# Altium schematic symbol library R1.SchLib: 224 symbols (part 2 of 2)
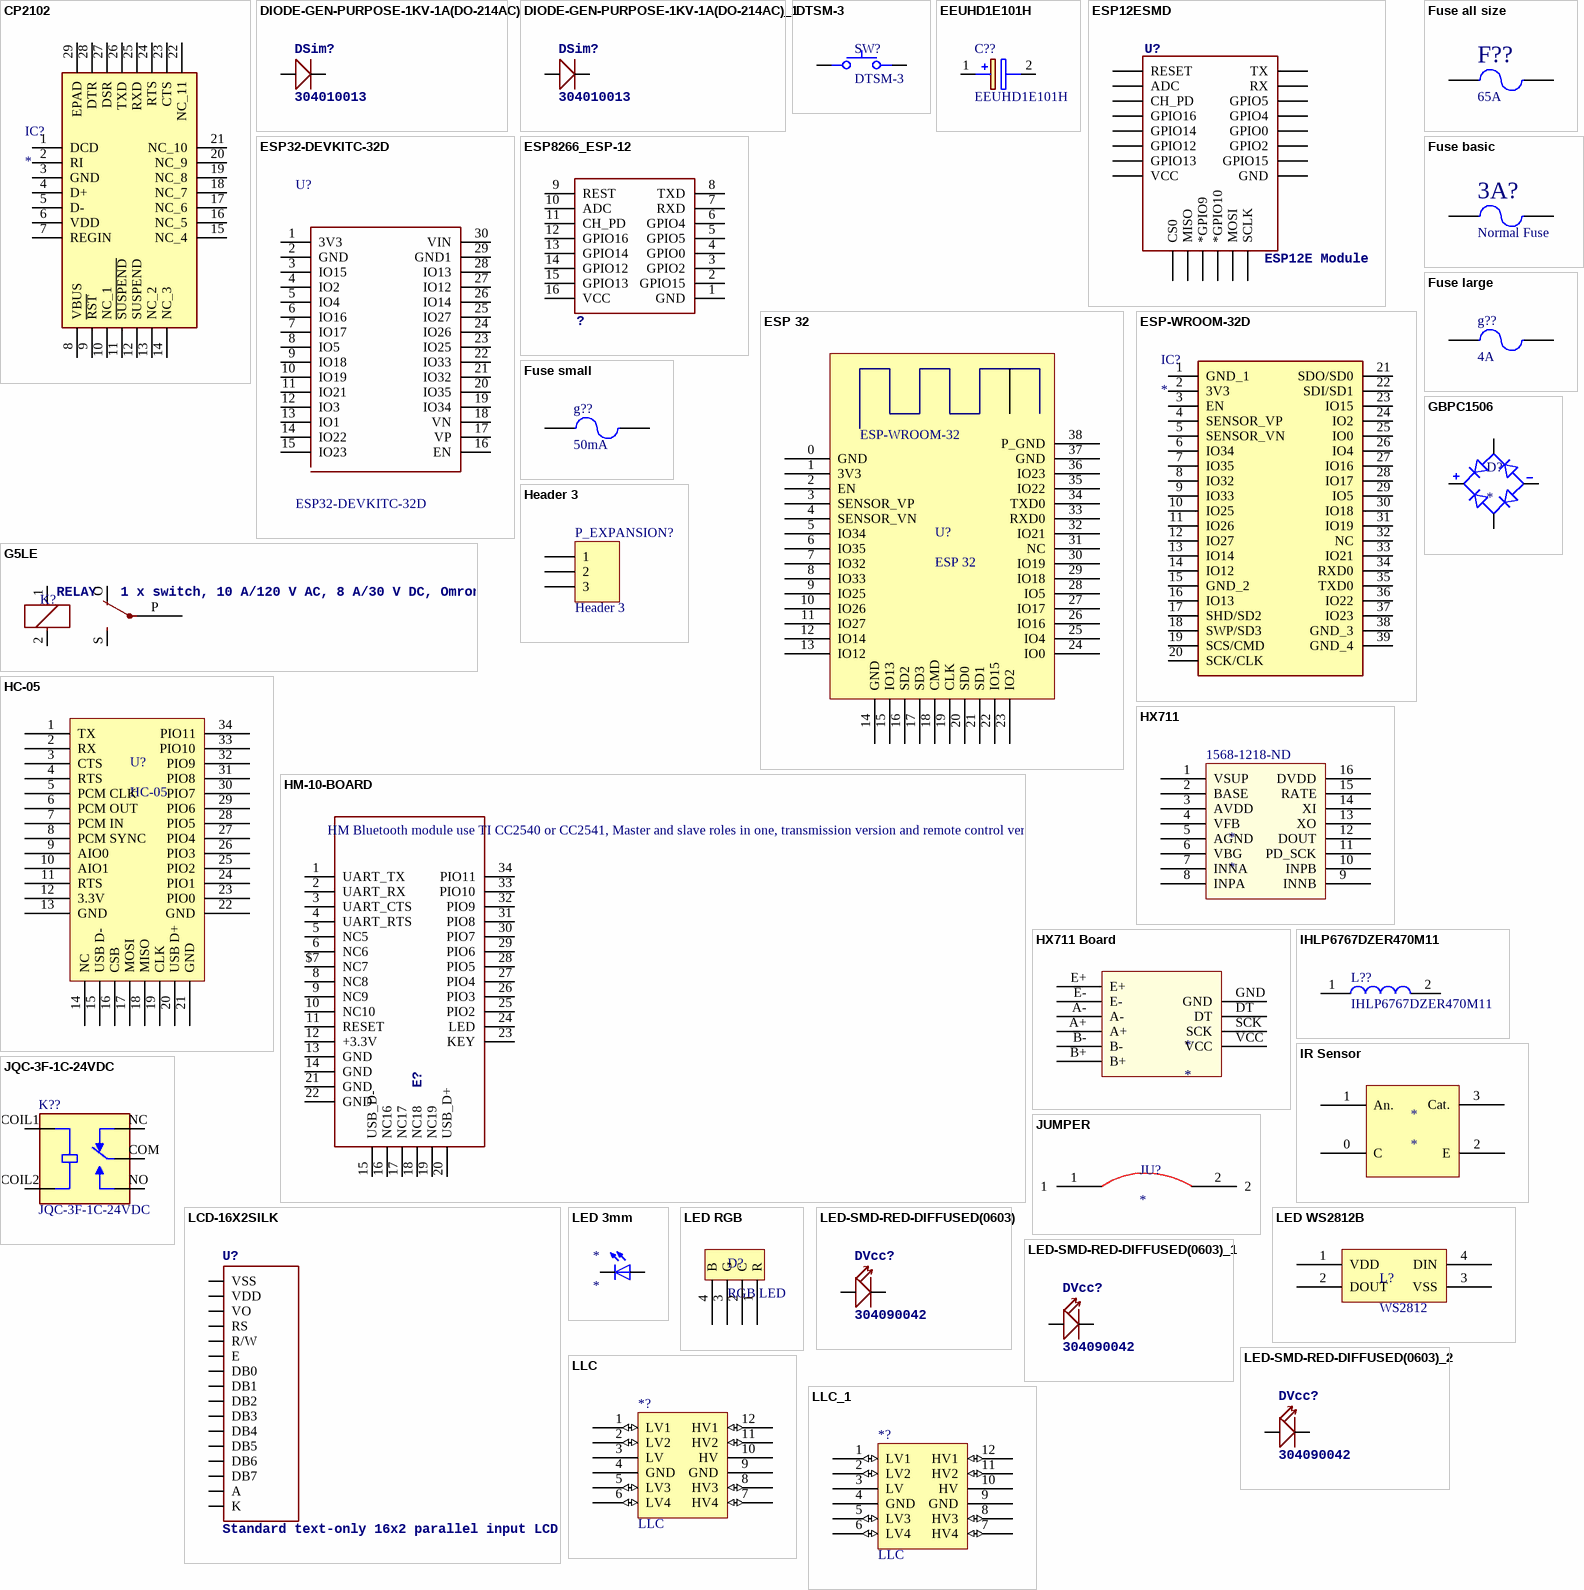
[diagram p7: symbols CP2102 to LLC_1]

## IR Sensor
designator *
footprint IR PRO
footprint Model Name (Model Description)
pins: 0 C, 1 An., 2 E, 3 Cat.

## JQC-3F-1C-24VDC
designator K??
Miniature PCB Relay 24VDC, 10A 250VAC, 15A 125VAC, 10A 250VAC; MF: YUEQING HENGWEI ELECTRONICS CO.,LTD.; Price: None; MP: JQC-3F-1C-24VDC; Availability: Unavailable; SnapEDA_Link: https://www.snapeda.com/parts/JQC-3F-1C-24VDC/YUEQING%20HENGWEI%20ELECTRONICS%20CO.,LTD./view-part/4374405/?ref=snap; Value: *; Package: Package; Check_prices: https://www.snapeda.com/parts/JQC-3F-1C-24VDC/YUEQING%20HENGWEI%20ELECTRONICS%20CO.,LTD./view-part/4374405/?ref=eda
footprint RELAY_JQC-3F-1C-24VDC
pins: COIL1, COIL2, COM, NC, NO

## JUMPER
designator JU?
footprint JUMPER 200mil (JUMPER for one layer PCB)
footprint JUMPER 400mil (JUMPER for one layer PCB)
footprint JUMPER 600mil (JUMPER for one layer PCB)
pins: 1, 2

## LCD-16X2SILK
designator U?, comment Standard text-only 16x2 parallel input LCD
footprint LCD-16X2
pins: 1 VSS (power), 2 VDD (power), 3 VO, 4 RS, 5 R/W, 6 E, 7 DB0, 8 DB1, 9 DB2, 10 DB3, 11 DB4, 12 DB5, 13 DB6, 14 DB7, 15 A (power), 16 K (power)

## LED 3mm
designator *
footprint LED 3mm
pins: A, K C

## LED RGB
designator D?, comment RGB LED
footprint LED RGB (5mm RGB LED)
pins: 1 R, 2 C, 3 G, 4 B

## LED WS2812B
designator L?, comment WS2812
RGB LED
footprint LED WS2812B (Intelligent control LED  integrated light source)
pins: 1 VDD, 2 DOUT, 3 VSS, 4 DIN

## LED-SMD-RED-DIFFUSED(0603)
designator DVcc?, comment 304090042
MPN: 19-217-R6C-AL1M2VY-3T
footprint LED-0603
pins: +, -

## LED-SMD-RED-DIFFUSED(0603)_1
designator DVcc?, comment 304090042
MPN: 19-217-R6C-AL1M2VY-3T
footprint LED-0603
pins: +, -

## LED-SMD-RED-DIFFUSED(0603)_2
designator DVcc?, comment 304090042
MPN: 19-217-R6C-AL1M2VY-3T
footprint LED-0603
pins: +, -

## LLC
designator *?
footprint LLC
pins: 1 LV1 (io), 2 LV2 (io), 3 LV (power), 4 GND (power), 5 LV3 (io), 6 LV4 (io), 7 HV4 (io), 8 HV3 (io), 9 GND (power), 10 HV (power), 11 HV2 (io), 12 HV1 (io)

## LLC_1
designator *?, comment LLC
footprint LLC
pins: 1 LV1 (io), 2 LV2 (io), 3 LV (power), 4 GND (power), 5 LV3 (io), 6 LV4 (io), 7 HV4 (io), 8 HV3 (io), 9 GND (power), 10 HV (power), 11 HV2 (io), 12 HV1 (io)

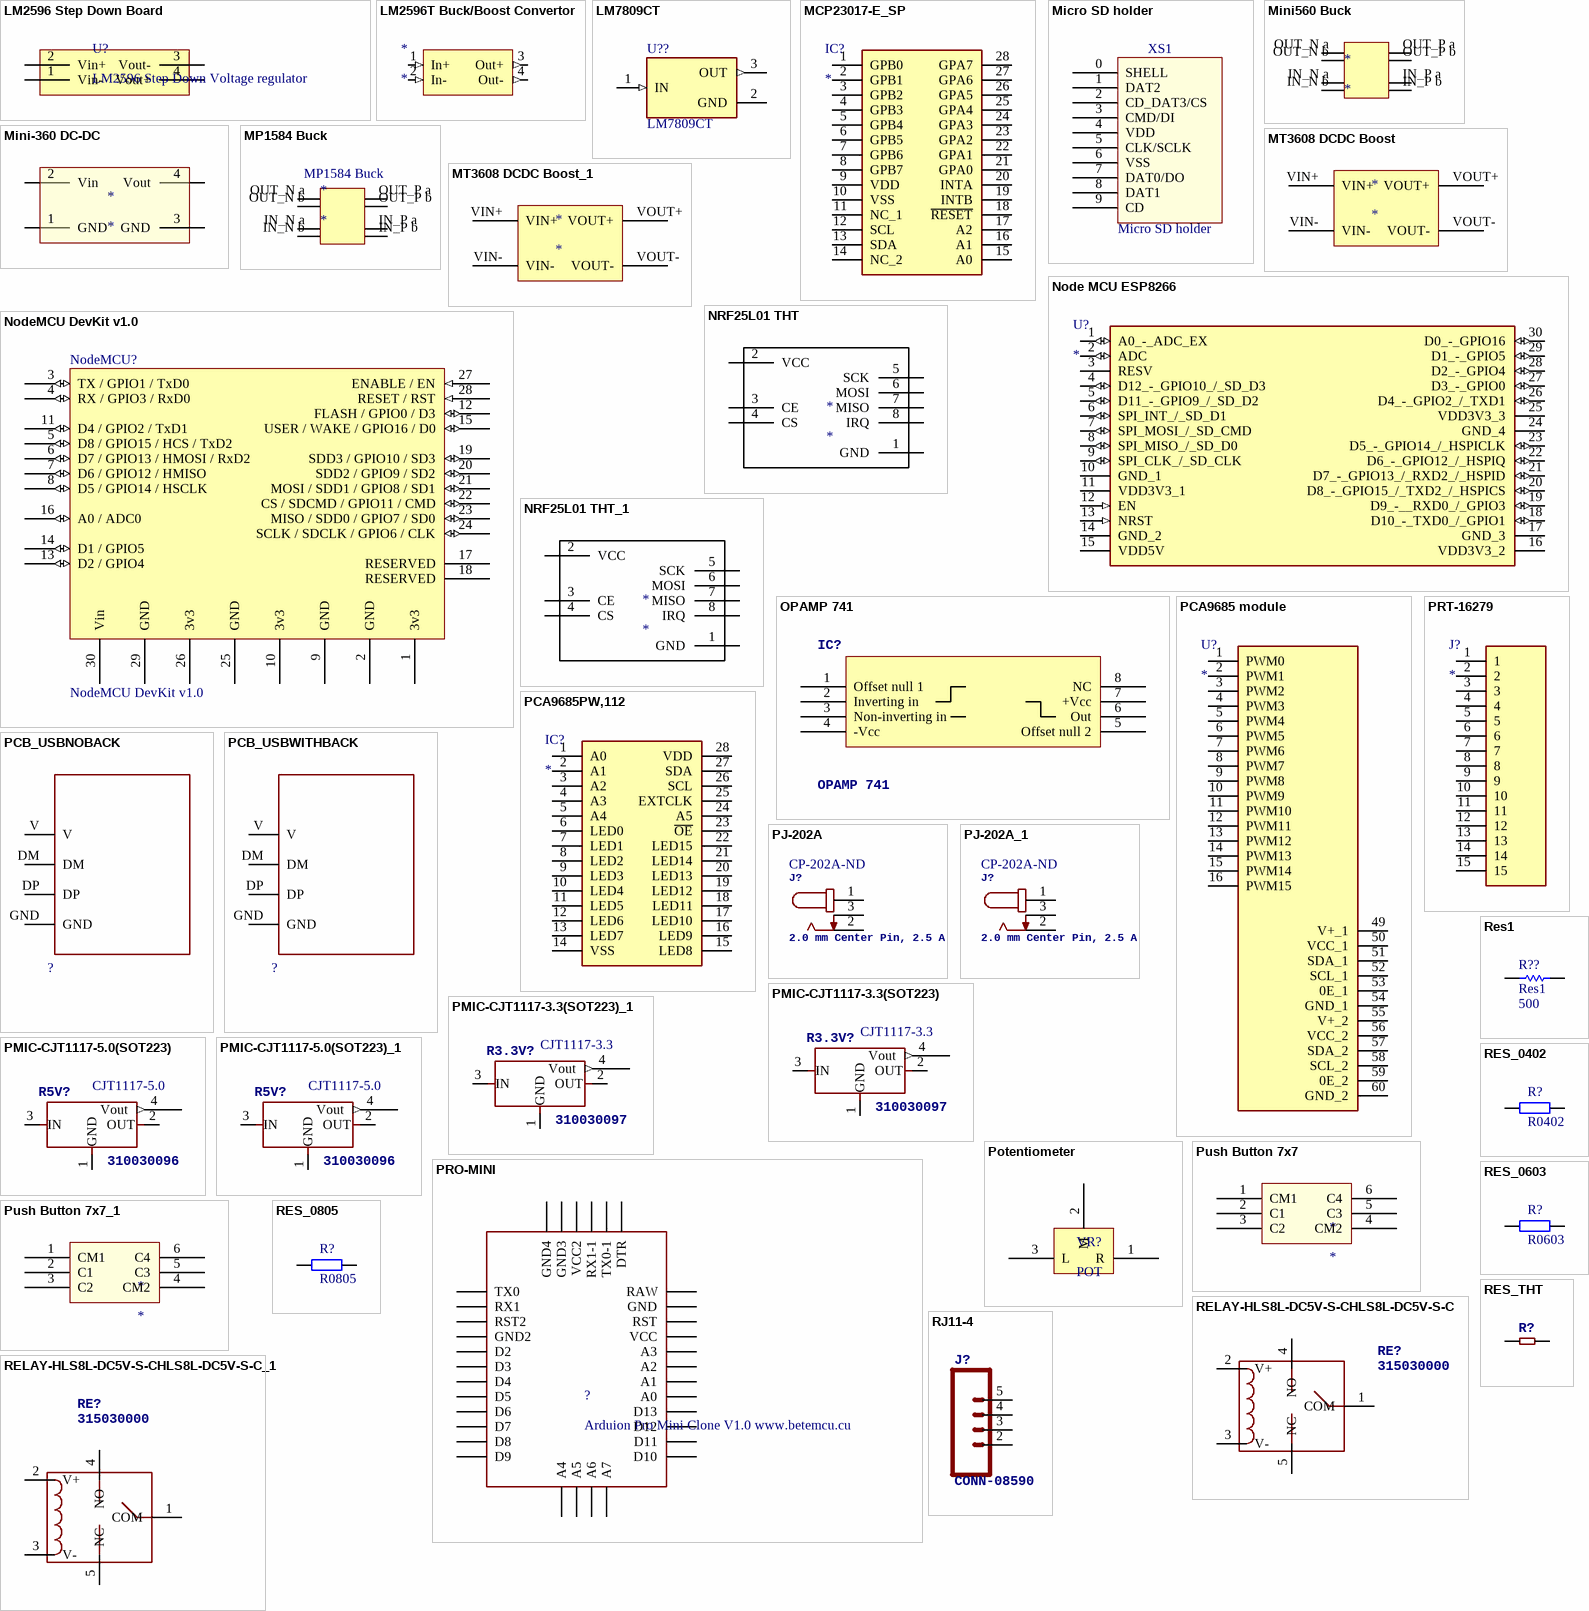
[diagram p4: symbols LM2596 Step Down Board to RJ11-4]

## LM2596 Step Down Board
designator U?, comment LM2596 Step Down Voltage regulator
footprint LM2596 DC-DC
pins: 1 Vin-, 2 Vin+, 3 Vout-, 4 Vout+

## LM2596T Buck/Boost Convertor
designator *
footprint LM2596 MODULE
pins: 1 In+ (in), 2 In- (in), 3 Out+ (out), 4 Out- (out)

## LM7809CT
designator U??
Linear Voltage Regulator IC 1 Output 1A TO-220-3; MF: Fujitsu; MP: LM7809C; Price: None; SnapEDA_Link: https://www.snapeda.com/parts/LM7809C/Fujitsu/view-part/1233224/?ref=snap; Package: TO-220-3 Fujitsu; Value: *; Availability: Unavailable
footprint TO254P470X1016X1879-3P
pins: 1 IN (in), 2 GND (power), 3 OUT (out)

## MCP23017-E_SP
designator IC?
Integrated Circuit; Manufacturer_Name: Microchip; Manufacturer_Part_Number: MCP23017-E/SP; Datasheet Link: https://datasheet.datasheetarchive.com/originals/distributors/SFDatasheet-4/sf-00090057.pdf; Height: 5.08mm; Mouser Part Number: 579-MCP23017-E/SP; Mouser Price/Stock: https://www.mouser.co.uk/ProductDetail/Microchip-Technology-Atmel/MCP23017-E-SP?qs=usxtMOJb1RyESXZDw7ia5A%3D%3D; Arrow Part Number: MCP23017-E/SP; Arrow Price/Stock: https://www.arrow.com/en/products/mcp23017-esp/microchip-technology?region=nac
footprint DIP794W56P254L3486H508Q28N
pins: 1 GPB0, 2 GPB1, 3 GPB2, 4 GPB3, 5 GPB4, 6 GPB5, 7 GPB6, 8 GPB7, 9 VDD, 10 VSS, 11 NC_1, 12 SCL, 13 SDA, 14 NC_2, 15 A0, 16 A1, 17 A2, 18 ~{RESET}, 19 INTB, 20 INTA, 21 GPA0, 22 GPA1, 23 GPA2, 24 GPA3, 25 GPA4, 26 GPA5, 27 GPA6, 28 GPA7

## Micro SD holder
designator XS1
footprint 112C-TBAR-R02
pins: 0 SHELL, 1 DAT2, 2 CD_DAT3/CS, 3 CMD/DI, 4 VDD, 5 CLK/SCLK, 6 VSS, 7 DAT0/DO, 8 DAT1, 9 CD

## Mini560 Buck
designator *
footprint Mini560
pins: IN_N a, IN_N b, IN_P a, IN_P b, OUT_N a, OUT_N b, OUT_P a OUT_P b, OUT_P b

## Mini-360 DC-DC
designator *
footprint Mini-360 (DC-DC Power source)
pins: 1 GND (power), 2 Vin (power), 3 GND (power), 4 Vout (power)

## MP1584 Buck
designator *
footprint MP1584 Buck
pins: IN_N a, IN_N b, IN_P a, IN_P b, OUT_N a, OUT_N b, OUT_P a OUT_P b, OUT_P b

## MT3608 DCDC Boost
designator *
footprint MT3608 (Step Up board)
pins: VIN+, VIN-, VOUT+, VOUT-

## MT3608 DCDC Boost_1
designator *
footprint MT3608 (Step Up board)
pins: VIN+, VIN-, VOUT+, VOUT-

## Node MCU ESP8266
designator U?
Undefined or Miscellaneous; Manufacturer_Name: Seeed Studio; Manufacturer_Part_Number: 113990105; Datasheet Link: https://www.seeedstudio.com/NodeMCU-v2-Lua-based-ESP8266-development-kit.html; Height: 7.35mm; Mouser Part Number: 713-113990105; Mouser Price/Stock: https://www.mouser.co.uk/ProductDetail/Seeed-Studio/113990105?qs=SElPoaY2y5KMx8k1roAIKw%3D%3D; Arrow Part Number: 113990105; Arrow Price/Stock: https://www.arrow.com/en/products/113990105/seeed-technology-limited?region=nac
footprint 113990105
pins: 1 A0_-_ADC_EX (io), 2 ADC (io), 3 RESV, 4 D12_-_GPIO10_/_SD_D3 (io), 5 D11_-_GPIO9_/_SD_D2 (io), 6 SPI_INT_/_SD_D1 (io), 7 SPI_MOSI_/_SD_CMD (io), 8 SPI_MISO_/_SD_D0 (io), 9 SPI_CLK_/_SD_CLK (io), 10 GND_1 (power), 11 VDD3V3_1 (power), 12 EN (in), 13 NRST (in), 14 GND_2 (power), 15 VDD5V (power), 16 VDD3V3_2 (power), 17 GND_3 (power), 18 D10_-_TXD0_/_GPIO1 (io), 19 D9_-__RXD0_/_GPIO3 (io), 20 D8_-_GPIO15_/_TXD2_/_HSPICS (io), 21 D7_-_GPIO13_/_RXD2_/_HSPID (io), 22 D6_-_GPIO12_/_HSPIQ (io), 23 D5_-_GPIO14_/_HSPICLK (io), 24 GND_4 (power), 25 VDD3V3_3 (power), 26 D4_-_GPIO2_/_TXD1 (io), 27 D3_-_GPIO0 (io), 28 D2_-_GPIO4 (io), 29 D1_-_GPIO5 (io), 30 D0_-_GPIO16 (io)

## NodeMCU DevKit v1.0
designator NodeMCU?
footprint NODEMCU
pins: 1 3v3 (power), 2 GND (power), 3 TX / GPIO1 / TxD0 (io), 4 RX / GPIO3 / RxD0 (io), 5 D8 / GPIO15 / HCS / TxD2 (io), 6 D7 / GPIO13 / HMOSI / RxD2 (io), 7 D6 / GPIO12 / HMISO (io), 8 D5 / GPIO14 / HSCLK (io), 9 GND (power), 10 3v3 (power), 11 D4 / GPIO2 / TxD1 (io), 12 FLASH / GPIO0 / D3 (io), 13 D2 / GPIO4 (io), 14 D1 / GPIO5 (io), 15 USER / WAKE / GPIO16 / D0 (io), 16 A0 / ADC0 (io), 17 RESERVED, 18 RESERVED, 19 SDD3 / GPIO10 / SD3 (io), 20 SDD2 / GPIO9 / SD2 (io), 21 MOSI / SDD1 / GPIO8 / SD1 (io), 22 CS / SDCMD / GPIO11 / CMD (io), 23 MISO / SDD0 / GPIO7 / SD0 (io), 24 SCLK / SDCLK / GPIO6 / CLK (io), 25 GND (power), 26 3v3 (power), 27 ENABLE / EN (in), 28 RESET / RST (in), 29 GND, 30 Vin

## NRF25L01 THT
designator *
footprint NRF25L01 THT
pins: 1 GND (power), 2 VCC (power), 3 CE, 4 CS, 5 SCK, 6 MOSI, 7 MISO, 8 IRQ

## NRF25L01 THT_1
designator *
footprint NRF25L01 THT
pins: 1 GND (power), 2 VCC (power), 3 CE, 4 CS, 5 SCK, 6 MOSI, 7 MISO, 8 IRQ

## OPAMP 741
designator IC?
footprint DIL08-ROUND
footprint DIL08-ROUND
pins: 1 Offset null 1, 2 Inverting in, 3 Non-inverting in, 4 -Vcc (power), 5 Offset null 2, 6 Out, 7 +Vcc (power), 8 NC

## PCA9685 module
designator U?
Undefined or Miscellaneous; Manufacturer_Name: Adafruit; Manufacturer_Part_Number: 815; Datasheet Link: https://cdn-shop.adafruit.com/datasheets/PCA9685.pdf; Mouser Part Number: 485-815; Mouser Price/Stock: https://www.mouser.co.uk/ProductDetail/Adafruit/815?qs=GURawfaeGuCGKbWyy9179Q%3D%3D; Arrow Part Number: 815; Arrow Price/Stock: https://www.arrow.com/en/products/815/adafruit-industries?region=nac
footprint PCA9685 module
pins: 1 PWM0, 2 PWM1, 3 PWM2, 4 PWM3, 5 PWM4, 6 PWM5, 7 PWM6, 8 PWM7, 9 PWM8, 10 PWM9, 11 PWM10, 12 PWM11, 13 PWM12, 14 PWM13, 15 PWM14, 16 PWM15, 49 V+_1, 50 VCC_1, 51 SDA_1, 52 SCL_1, 53 0E_1, 54 GND_1, 55 V+_2, 56 VCC_2, 57 SDA_2, 58 SCL_2, 59 0E_2, 60 GND_2

## PCA9685PW,112
designator IC?
Integrated Circuit; Manufacturer_Name: NXP; Manufacturer_Part_Number: PCA9685PW,112; Datasheet Link: http://www.nxp.com/docs/en/data-sheet/PCA9685.pdf; Height: 1.1mm; Mouser Part Number: 771-PCA9685PW,112; Mouser Price/Stock: https://www.mouser.co.uk/ProductDetail/NXP-Semiconductors/PCA9685PW112?qs=6YAT8rHPFU9wZqiAeiOMZw%3D%3D; Arrow Part Number: PCA9685PW,112; Arrow Price/Stock: https://www.arrow.com/en/products/pca9685pw112/nxp-semiconductors?region=nac
footprint SOP65P640X110-28N
pins: 1 A0, 2 A1, 3 A2, 4 A3, 5 A4, 6 LED0, 7 LED1, 8 LED2, 9 LED3, 10 LED4, 11 LED5, 12 LED6, 13 LED7, 14 VSS, 15 LED8, 16 LED9, 17 LED10, 18 LED11, 19 LED12, 20 LED13, 21 LED14, 22 LED15, 23 ~{OE}, 24 A5, 25 EXTCLK, 26 SCL, 27 SDA, 28 VDD

## PCB_USBNOBACK
designator ?
footprint PCB_USB_WBACK
pins: DM, DP, GND, V

## PCB_USBWITHBACK
designator ?
footprint PCB_USB_WBACK
pins: DM, DP, GND, V

## PJ-202A
designator J?, comment 2.0 mm Center Pin, 2.5 A, Right Angle, Through Hole, Kinked Pins, Dc Power Jack Connector  Supplier Part Number 1: CP-202A-ND
GateName_1: G$1; SymbolName_1: PJ-202A; MF: CUI Inc.; LibraryName: PJ-202A; DeviceSetName: PJ-202A; Package: CUI_PJ-202A; MP: PJ-202A; Availability: Unavailable; Package: None; Price: None; CUI_purchase_URL: https://www.cui.com/product/interconnect/dc-power-connectors/jacks/2.0-mm-center-pin/pj-202a?utm_source=snapeda.com&utm_medium=referral&utm_campaign=snapedaBOM; Supplier 1: Digi-Key
footprint CUI_PJ-202A (2.0 mm Center Pin, 2.5 A, Right Angle, Through Hole, Kinked Pins, Dc Power Jack Connector)
pins: 1, 2, 3

## PJ-202A_1
designator J?, comment 2.0 mm Center Pin, 2.5 A, Right Angle, Through Hole, Kinked Pins, Dc Power Jack Connector  Supplier Part Number 1: CP-202A-ND
GateName_1: G$1; SymbolName_1: PJ-202A; MF: CUI Inc.; LibraryName: PJ-202A; DeviceSetName: PJ-202A; Package: CUI_PJ-202A; MP: PJ-202A; Availability: Unavailable; Package: None; Price: None; CUI_purchase_URL: https://www.cui.com/product/interconnect/dc-power-connectors/jacks/2.0-mm-center-pin/pj-202a?utm_source=snapeda.com&utm_medium=referral&utm_campaign=snapedaBOM; Supplier 1: Digi-Key
footprint CUI_PJ-202A (2.0 mm Center Pin, 2.5 A, Right Angle, Through Hole, Kinked Pins, Dc Power Jack Connector)
pins: 1, 2, 3

## PMIC-CJT1117-3.3(SOT223)
designator R3.3V?, comment 310030097  MPN: CJT1117-3.3
footprint SOT-223
pins: 1 GND, 2 OUT, 3 IN, 4 Vout (out)

## PMIC-CJT1117-3.3(SOT223)_1
designator R3.3V?, comment 310030097  MPN: CJT1117-3.3
footprint SOT-223
pins: 1 GND, 2 OUT, 3 IN, 4 Vout (out)

## PMIC-CJT1117-5.0(SOT223)
designator R5V?, comment 310030096  MPN: CJT1117-5.0
footprint SOT-223
pins: 1 GND, 2 OUT, 3 IN, 4 Vout (out)

## PMIC-CJT1117-5.0(SOT223)_1
designator R5V?, comment 310030096  MPN: CJT1117-5.0
footprint SOT-223
pins: 1 GND, 2 OUT, 3 IN, 4 Vout (out)

## Potentiometer
designator VR?, comment POT
Potentiometer
footprint Potentiometer (THT)
footprint potentiometer SMD (SMD)
pins: 1 R, 2 M, 3 L

## PRO-MINI
designator ?, comment Arduion Pro Mini Clone V1.0 www.betemcu.cu
footprint PRO-MINI
pins: A0, A1, A2, A3, A4, A5, A6, A7, D2, D3, D4, D5, D6, D7, D8, D9, D10, D11, D12, D13, DTR, GND, GND1 GND2, GND2 GND4, GND3, RAW (power), RST, RST1 RST2, RX1, RX1-1, TX0, TX0-1, VCC, VCC1 VCC2

## PRT-16279
designator J?
Connector; Manufacturer_Name: SparkFun; Manufacturer_Part_Number: PRT-16279; Datasheet Link: https://cdn.sparkfun.com/assets/8/d/8/4/7/DS-16279-Arduino_Nano_Stackable_Header_Kit.pdf; Height: 8.65mm; Mouser Part Number: 474-PRT-16279; Mouser Price/Stock: https://www.mouser.co.uk/ProductDetail/SparkFun/PRT-16279?qs=vmHwEFxEFR8I6W1vfufYPg%3D%3D; Arrow Part Number: PRT-16279; Arrow Price/Stock: https://www.arrow.com/en/products/prt-16279/sparkfun-electronics?region=nac
footprint PRT16279
pins: 1, 2, 3, 4, 5, 6, 7, 8, 9, 10, 11, 12, 13, 14, 15

## Push Button 7x7
designator *
footprint Push Button 7x7 (7x7 SELF-LOCK BUTTON - 2mm DIP)
pins: 1 CM1, 2 C1, 3 C2, 4 CM2, 5 C3, 6 C4

## Push Button 7x7_1
designator *
footprint Push Button 7x7 (7x7 SELF-LOCK BUTTON - 2mm DIP)
pins: 1 CM1, 2 C1, 3 C2, 4 CM2, 5 C3, 6 C4

## RELAY-HLS8L-DC5V-S-CHLS8L-DC5V-S-C
designator RE?, comment 315030000
footprint REY5-19.0X15.0X15.0MM
pins: 1 COM, 2 V+, 3 V-, 4 NO, 5 NC

## RELAY-HLS8L-DC5V-S-CHLS8L-DC5V-S-C_1
designator RE?, comment 315030000
footprint REY5-19.0X15.0X15.0MM
pins: 1 COM, 2 V+, 3 V-, 4 NO, 5 NC

## Res1
designator R??  value 500
Resistor; Published: 8-Jun-2000; LatestRevisionDate: 17-Jul-2002; LatestRevisionNote: Re-released for DXP Platform.; PackageReference: AXIAL-0.3; Publisher: Altium Limited; PackageDescription: Axial Device, Thru-Hole; 2 Leads; 0.3 in Pin Spacing
footprint AXIAL-0.3 (Axial Device, Thru-Hole; 2 Leads; 0.3 in Pin Spacing)
simulation model RESISTOR (Resistor)
pins: 1, 2

## RES_0402
designator R?, comment R0402
Resistor SMD 0402; Manufacturer: *; Manufacturer Part Number: *; Distributor Link: *
footprint RES_0402
pins: 1, 2

## RES_0603
designator R?, comment R0603
Resistor SMD 0603; Manufacturer: *; Manufacturer Part Number: *; Distributor Link: *
footprint RES_0603
pins: 1, 2

## RES_0805
designator R?, comment R0805
Resistor SMD 0805; Manufacturer: *; Manufacturer Part Number: *; Distributor Link: *
footprint RES_0805
pins: 1, 2

## RES_THT
designator R?
footprint Res 1/4w
pins: 1, 2

## RJ11-4
designator J?, comment CONN-08590
RJ11 4P4C; SF_ID: PRT-00132; PROD_ID: CONN-08590
footprint RJ11-6 - 4pin (54601-906WPLF CONN MOD JACK 6P6C R/A UNSHLD)
pins: 2, 3, 4, 5

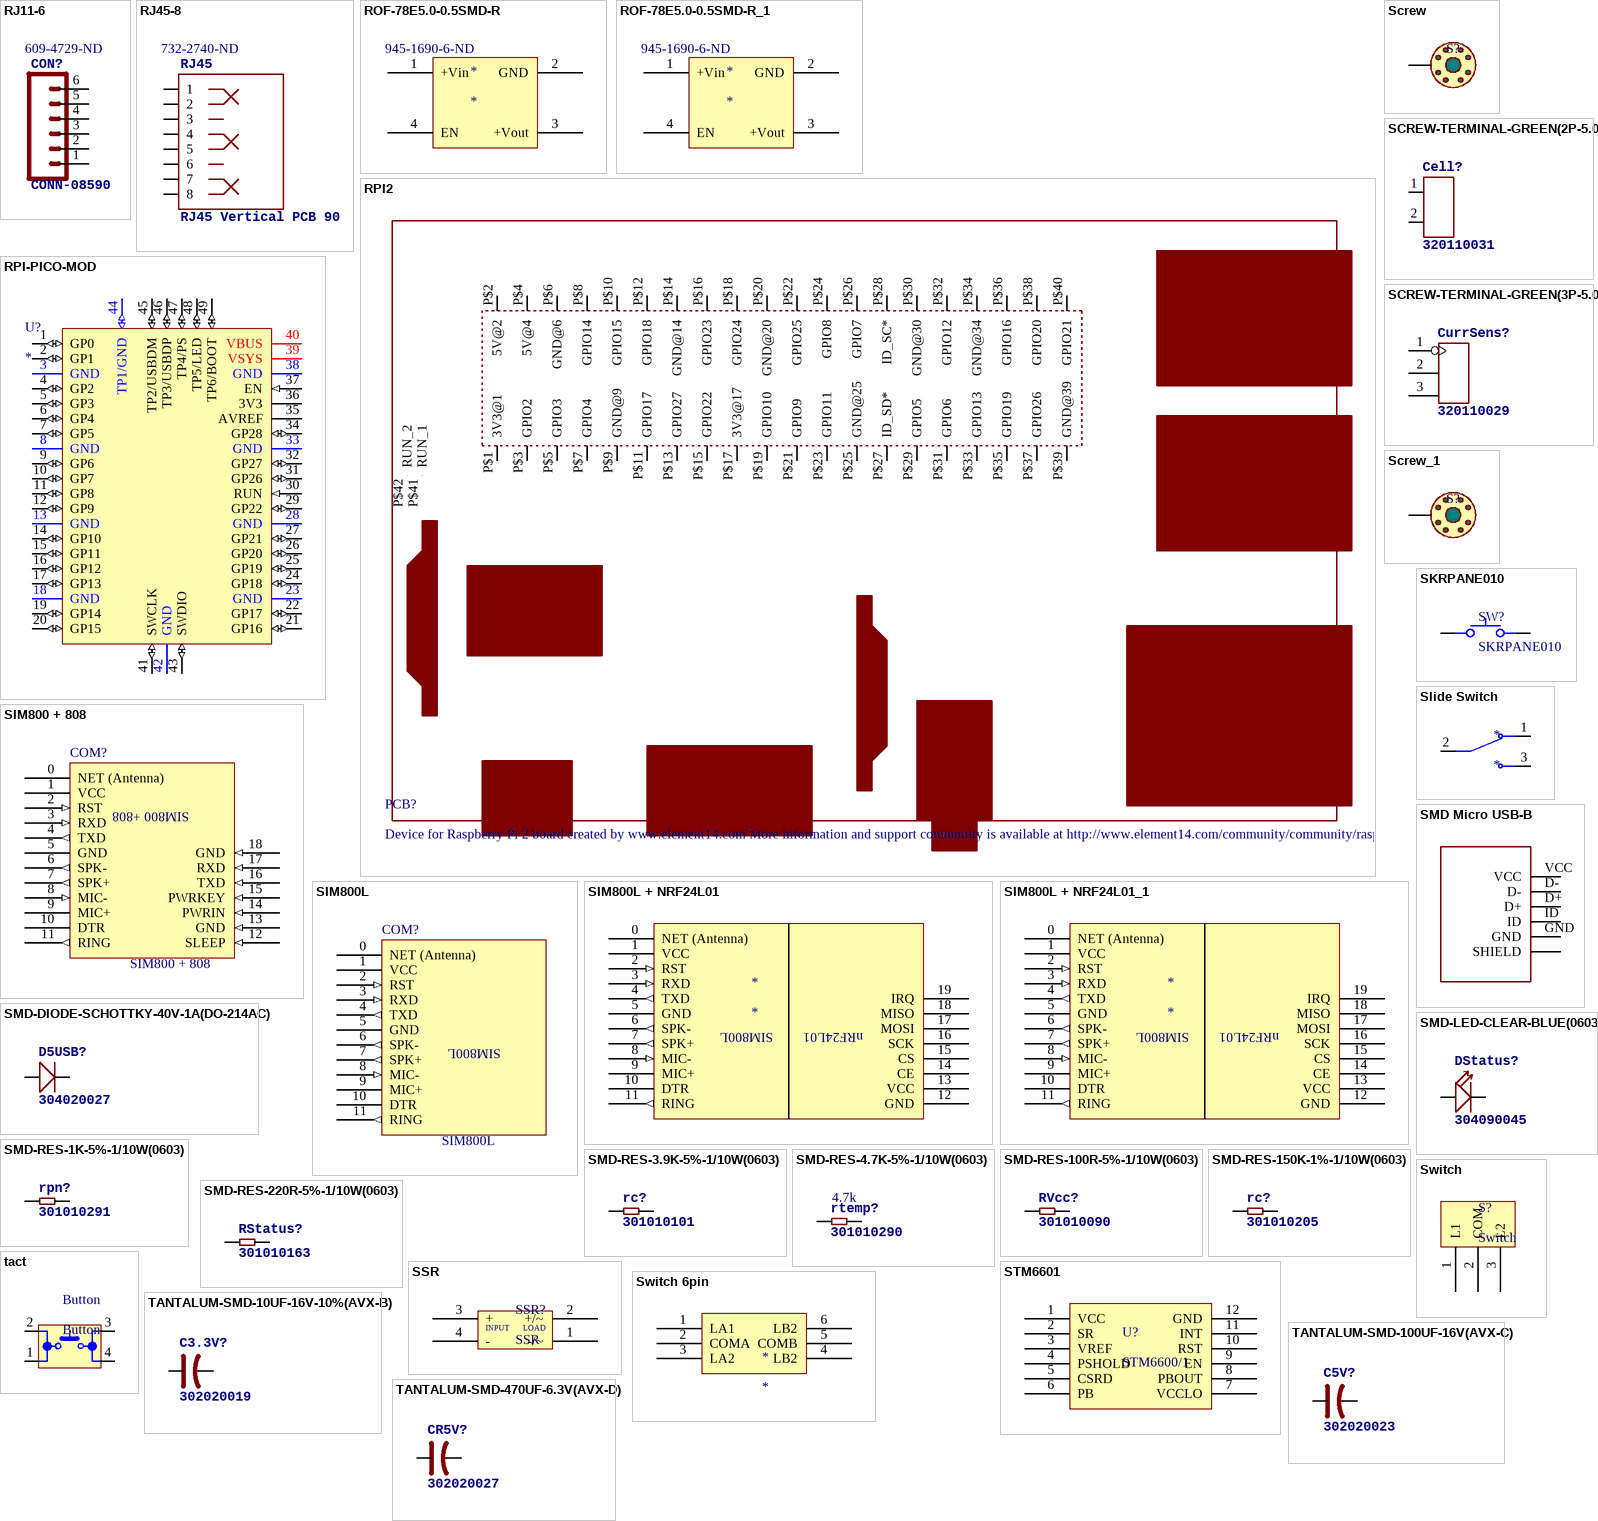
[diagram p5: symbols RJ11-6 to TANTALUM-SMD-470UF-6.3V(AVX-D)]

## RJ11-6
designator CON?, comment CONN-08590  Supplier Part Number 1: 609-4729-ND
RJ11 6P6C; SF_ID: PRT-00132; PROD_ID: CONN-08590; Supplier 1: Digi-Key
footprint RJ11-6
pins: 1, 2, 3, 4, 5, 6

## RJ45-8
designator RJ45, comment RJ45 Vertical PCB 90  Supplier Part Number 1: 732-2740-ND
Wurth Electronics 615008138021; PROD_ID: 615008138021; Supplier 1: Digi-Key
footprint RJ45-8
pins: 1, 2, 3, 4, 5, 6, 7, 8

## ROF-78E5.0-0.5SMD-R
designator *  Supplier Part Number 1: 945-1690-6-ND
Manufacturer: Recom Power; Manufacturer Part Number: ROF-78E5.0-0.5SMD-R; Power (Watts) - Manufacture Series: 3W; Number of Outputs: 1; Voltage - Input (Min): 9V; Voltage - Input (Max): 36V; Voltage - Output 1: 5V; Current - Output (Max): 500mA; Efficiency: 87%; Supplier 1: Digi-Key; RoHS: RoHS Compliant; Category: Power Supplies - Board Mount; Stock 1: 3805; Pricing 1: 1=3.38, 5=3.338, 10=3.29, 25=3.196, 50=3.102, 100=3.008, 250=2.914 (USD); Packaging: Digi-Reel®; Type: Non-Isolated PoL Module; Voltage - Output 2: -; Voltage - Output 3: -; Voltage - Isolation: -; Applications: ITE (Commercial); Features: SCP; Mounting Type: Surface Mount; Package / Case: 4-SMD Module; Size / Dimension: 0.53" L x 0.49" W x 0.18" H (13.5mm x 12.5mm x 4.5mm); Operating Temperature: -40°C ~ 75°C; Power (Watts) - Max: 3W; ComponentLink1URL: http://www.recom-power.com/pdf/Innoline/ROF-78Exx-0.5.pdf; ComponentLink1Description: http://www.recom-power.com/pdf/Innoline/ROF-78Exx-0.5.pdf
footprint ROF-78E5.0-0.5SMD-R (SMD Switching Regulator)
pins: 1 +Vin (power), 2 GND (power), 3 +Vout (power), 4 EN (power)

## ROF-78E5.0-0.5SMD-R_1
designator *  Supplier Part Number 1: 945-1690-6-ND
Manufacturer: Recom Power; Manufacturer Part Number: ROF-78E5.0-0.5SMD-R; Power (Watts) - Manufacture Series: 3W; Number of Outputs: 1; Voltage - Input (Min): 9V; Voltage - Input (Max): 36V; Voltage - Output 1: 5V; Current - Output (Max): 500mA; Efficiency: 87%; Supplier 1: Digi-Key; RoHS: RoHS Compliant; Category: Power Supplies - Board Mount; Stock 1: 3805; Pricing 1: 1=3.38, 5=3.338, 10=3.29, 25=3.196, 50=3.102, 100=3.008, 250=2.914 (USD); Packaging: Digi-Reel®; Type: Non-Isolated PoL Module; Voltage - Output 2: -; Voltage - Output 3: -; Voltage - Isolation: -; Applications: ITE (Commercial); Features: SCP; Mounting Type: Surface Mount; Package / Case: 4-SMD Module; Size / Dimension: 0.53" L x 0.49" W x 0.18" H (13.5mm x 12.5mm x 4.5mm); Operating Temperature: -40°C ~ 75°C; Power (Watts) - Max: 3W; ComponentLink1URL: http://www.recom-power.com/pdf/Innoline/ROF-78Exx-0.5.pdf; ComponentLink1Description: http://www.recom-power.com/pdf/Innoline/ROF-78Exx-0.5.pdf
footprint ROF-78E5.0-0.5SMD-R (SMD Switching Regulator)
pins: 1 +Vin (power), 2 GND (power), 3 +Vout (power), 4 EN (power)

## RPI2
designator PCB?, comment Device for Raspberry Pi 2 board created by www.element14.com More information and support community is available at http://www.element14.com/community/community/raspberry-pi/raspberrypi2
footprint RPI2
pins: P$1 3V3@1, P$2 5V@2, P$3 GPIO2, P$4 5V@4, P$5 GPIO3, P$6 GND@6, P$7 GPIO4, P$8 GPIO14, P$9 GND@9, P$10 GPIO15, P$11 GPIO17, P$12 GPIO18, P$13 GPIO27, P$14 GND@14, P$15 GPIO22, P$16 GPIO23, P$17 3V3@17, P$18 GPIO24, P$19 GPIO10, P$20 GND@20, P$21 GPIO9, P$22 GPIO25, P$23 GPIO11, P$24 GPIO8, P$25 GND@25, P$26 GPIO7, P$27 ID_SD*, P$28 ID_SC*, P$29 GPIO5, P$30 GND@30, P$31 GPIO6, P$32 GPIO12, P$33 GPIO13, P$34 GND@34, P$35 GPIO19, P$36 GPIO16, P$37 GPIO26, P$38 GPIO20, P$39 GND@39, P$40 GPIO21, P$41 RUN_1, P$42 RUN_2

## RPI-PICO-MOD
designator U?
RASPBERRY PI PICO RP2040 BOARD; Manufacturer: Raspberry Pi Foundation; Manufacturer Part No: SC0915; Mounting Technology: SMT; Supplier: DigiKey; Supplier Part No: 2648-SC0915CT-ND; Supplier Link: https://www.digikey.com/en/products/detail/raspberry-pi/SC0915/13684020
footprint RPI-PICO-MOD (RASPBERRY PI PICO RP2040 BOARD)
pins: 1 GP0 (io), 2 GP1 (io), 3 GND (power), 4 GP2 (io), 5 GP3 (io), 6 GP4 (io), 7 GP5 (io), 8 GND (power), 9 GP6 (io), 10 GP7 (io), 11 GP8 (io), 12 GP9 (io), 13 GND (power), 14 GP10 (io), 15 GP11 (io), 16 GP12 (io), 17 GP13 (io), 18 GND (power), 19 GP14 (io), 20 GP15 (io), 21 GP16 (io), 22 GP17 (io), 23 GND (power), 24 GP18 (io), 25 GP19 (io), 26 GP20 (io), 27 GP21 (io), 28 GND (power), 29 GP22 (io), 30 RUN (in), 31 GP26 (io), 32 GP27 (io), 33 GND (power), 34 GP28 (io), 35 AVREF (power), 36 3V3 (power), 37 EN (in), 38 GND (power), 39 VSYS (power), 40 VBUS (power), 41 SWCLK (io), 42 GND (power), 43 SWDIO (io), 44 TP1/GND (io), 45 TP2/USBDM (io), 46 TP3/USBDP (io), 47 TP4/PS (io), 48 TP5/LED (io), 49 TP6/BOOT (io)

## Screw
designator S?  (value not drawn)  (net tie, no BOM)
3mm Screw; ASiD Part Number: Screw-AS
footprint SCREW-3MM
pins: 0

## SCREW-TERMINAL-GREEN(2P-5.0)
designator Cell?, comment 320110031
footprint H2-5.0-10.5X8.0MM
pins: 1, 2

## SCREW-TERMINAL-GREEN(3P-5.0)
designator CurrSens?, comment 320110029
footprint H3-5.0-15.5X8.0MM
pins: 1 P$1, 2 P$2, 3 P$3

## Screw_1
designator S?, comment Screw  (value not drawn)  (net tie, no BOM)
3mm Screw; ASiD Part Number: Screw-AS
footprint SCREW-3MM
pins: 0

## SIM800 + 808
designator COM?
footprint SIM800 + bk-808
pins: 0 NET (Antenna) (hiz), 1 VCC (power), 2 RST (in), 3 RXD (in), 4 TXD (out), 5 GND (hiz), 6 SPK- (out), 7 SPK+ (out), 8 MIC- (in), 9 MIC+ (hiz), 10 DTR (power), 11 RING (out), 12 SLEEP (in), 13 GND (in), 14 PWRIN (in), 15 PWRKEY (in), 16 TXD (in), 17 RXD (in), 18 GND (in)
text: SIM800 +808

## SIM800L
designator COM?
footprint SIM800L
pins: 0 NET (Antenna) (hiz), 1 VCC (power), 2 RST (in), 3 RXD (in), 4 TXD (out), 5 GND (hiz), 6 SPK- (out), 7 SPK+ (out), 8 MIC- (in), 9 MIC+ (hiz), 10 DTR (power), 11 RING (out)

## SIM800L + NRF24L01
designator *
footprint SIM800L+NRF24L01
pins: 0 NET (Antenna) (hiz), 1 VCC (power), 2 RST (in), 3 RXD (in), 4 TXD (out), 5 GND (hiz), 6 SPK- (out), 7 SPK+ (out), 8 MIC- (in), 9 MIC+ (hiz), 10 DTR (power), 11 RING (out), 12 GND (power), 13 VCC (power), 14 CE (power), 15 CS (power), 16 SCK (power), 17 MOSI (power), 18 MISO (power), 19 IRQ (power)
text: SIM800L; nRF24L01

## SIM800L + NRF24L01_1
designator *
footprint SIM800L+NRF24L01
pins: 0 NET (Antenna) (hiz), 1 VCC (power), 2 RST (in), 3 RXD (in), 4 TXD (out), 5 GND (hiz), 6 SPK- (out), 7 SPK+ (out), 8 MIC- (in), 9 MIC+ (hiz), 10 DTR (power), 11 RING (out), 12 GND (power), 13 VCC (power), 14 CE (power), 15 CS (power), 16 SCK (power), 17 MOSI (power), 18 MISO (power), 19 IRQ (power)
text: SIM800L; nRF24L01

## SKRPANE010
designator SW?
Tactile Switch SMD SPST; Manufacturer: Alps Alpine; Manufacturer Part Number: SKRPANE010
footprint SKRPANE010
pins: 12, 34

## Slide Switch
designator *
footprint Slide Switch
pins: 1 NC, 2 COM, 3 NO

## SMD Micro USB-B
designator USB*, comment 320010003  (value not drawn)
10118193-0001LF - 320010003; GateName_1: G$1; SymbolName_1: 10118193-0001LF; LibraryName: eagle_usb; DeviceSetName: 10118193-0001LF; Package: 10118193-0001LF
footprint 10118193-0001LF
pins: D+, D-, GND, ID, SHIELD$1 SHIELD$2 SHIELD$3 SHIELD$4 SHIELD, VCC

## SMD-DIODE-SCHOTTKY-40V-1A(DO-214AC)
designator D5USB?, comment 304020027
MPN: 1N5819
footprint DO-214AC
pins: 1 +, 2 -

## SMD-LED-CLEAR-BLUE(0603)
designator DStatus?, comment 304090045
MPN: 19-217-BHC-ZL1M2RY-3T
footprint LED-0603
pins: +, -

## SMD-RES-1K-5%-1/10W(0603)
designator rpn?, comment 301010291
1k; MPN: RC0603JR-071KL
footprint R0603
pins: 1, 2

## SMD-RES-3.9K-5%-1/10W(0603)
designator rc?, comment 301010101
MPN: RC0603JR-073K9L
footprint R0603
pins: 1, 2

## SMD-RES-4.7K-5%-1/10W(0603)
designator rtemp?, comment 301010290
MPN: RC0603JR-074K7L
footprint R0603
pins: 1, 2
text: 4.7k

## SMD-RES-100R-5%-1/10W(0603)
designator RVcc?, comment 301010090
MPN: RC0603JR-07100RL
footprint R0603
pins: 1, 2

## SMD-RES-150K-1%-1/10W(0603)
designator rc?, comment 301010205
MPN: RC0603FR-07150KL
footprint R0603
pins: 1, 2

## SMD-RES-220R-5%-1/10W(0603)
designator RStatus?, comment 301010163
MPN: RC0603JR-07220RL
footprint R0603
pins: 1, 2

## SSR
designator SSR?
HHG1D-1
footprint SSR (HHG1D-1)
pins: 1 -/~, 2 +/~, 3 +, 4 -
text: INPUT; LOAD

## STM6601
designator U?, comment STM6600/1
Smart push-button on/off controller with Smart Reset™ and  power-on lockout
footprint TDFN12
pins: 1 VCC, 2 SR, 3 VREF, 4 PSHOLD, 5 CSRD, 6 PB, 7 VCCLO, 8 PBOUT, 9 EN, 10 RST, 11 INT, 12 GND

## Switch
designator S?
footprint SW-PCB (1P2T 90 Angle Horizontal Slide)
pins: 1 L1, 2 COM, 3 L2

## Switch 6pin
designator *
footprint SW-PCB 6PIN (2P2T 6PIN)
pins: 1 LA1, 2 COMA, 3 LA2, 4 LB2, 5 COMB, 6 LB2

## tact
designator Button, comment Button
SWITCH TACTILE SPST-NO 0.05A 24V; Manufacturer: TE Connectivity Alcoswitch; Manufacturer Part Number: 1825910-6; Actuator Material: PBT; Mechanical Life: 100000Cycles; Operating Force: 160gf; Throw Configuration: SPST; Illumination Type: Non-Illuminated,Illuminated; Switch Travel: 0.25mm; Switch Function: Off-Mom; Contact Current Rating: 50mA; Actuator Type: Standard; Contact Resistance: 100mR; Actuator Length: 0.055inch; RoHS: Yes; Category: Pushbutton Switches; Stock 1: 97530; Pricing 1: 1=0,10000, 10=0,10100, 25=0,09560, 100=0,08700, 250=0,08180, 500=0,07484, 1000=0,06265, 2500=0,06092, 5000=0,05743 (USD); Mount: Through Hole; Contact Material: Copper Alloy; Contact Plating: Silver; Min Operating Temperature: -35°C; Max Operating Temperature: 85°C; Termination: PC Pins; Package Quantity: 750; Packaging: Loose Piece; Orientation: Straight; Max Voltage Rating (DC): 24V; Electrical Life: 100000Cycles; Max Current Rating: 50mA; Type: Switch; Length: 5.99mm; REACH SVHC: Unknown; ELV: Compliant; Lead Free: Lead Free; ComponentLink1URL: https://datasheet.ciiva.com/30199/1825910-6rqpn1825910-6-30199520.pdf?src-supplier=Onlinecomponents.com; ComponentLink1Description: https://datasheet.ciiva.com/30199/1825910-6rqpn1825910-6-30199520.pdf?src-supplier=Onlinecomponents.com; ComponentLink2URL: https://datasheet.ciiva.com/15184/getdatasheetpartid-395915-15184509.pdf?src-supplier=Verical; ComponentLink2Description: https://datasheet.ciiva.com/15184/getdatasheetpartid-395915-15184509.pdf?src-supplier=Verical; Supplier 1: Digi-Key; Supplier Part Number 1: 450-1650-ND
footprint 1825910-6_BUTTON
pins: 1, 2, 3, 4

## TANTALUM-SMD-10UF-16V-10%(AVX-B)
designator C3.3V?, comment 302020019
MPN: TAJB106K016RNJ
footprint AVX-B
pins: +, -

## TANTALUM-SMD-100UF-16V(AVX-C)
designator C5V?, comment 302020023
MPN: TAJC107K016RNJ
footprint AVX-C
pins: +, -

## TANTALUM-SMD-470UF-6.3V(AVX-D)
designator CR5V?, comment 302020027
MPN: TAJD477*006#NJ
footprint AVX-D
pins: +, -

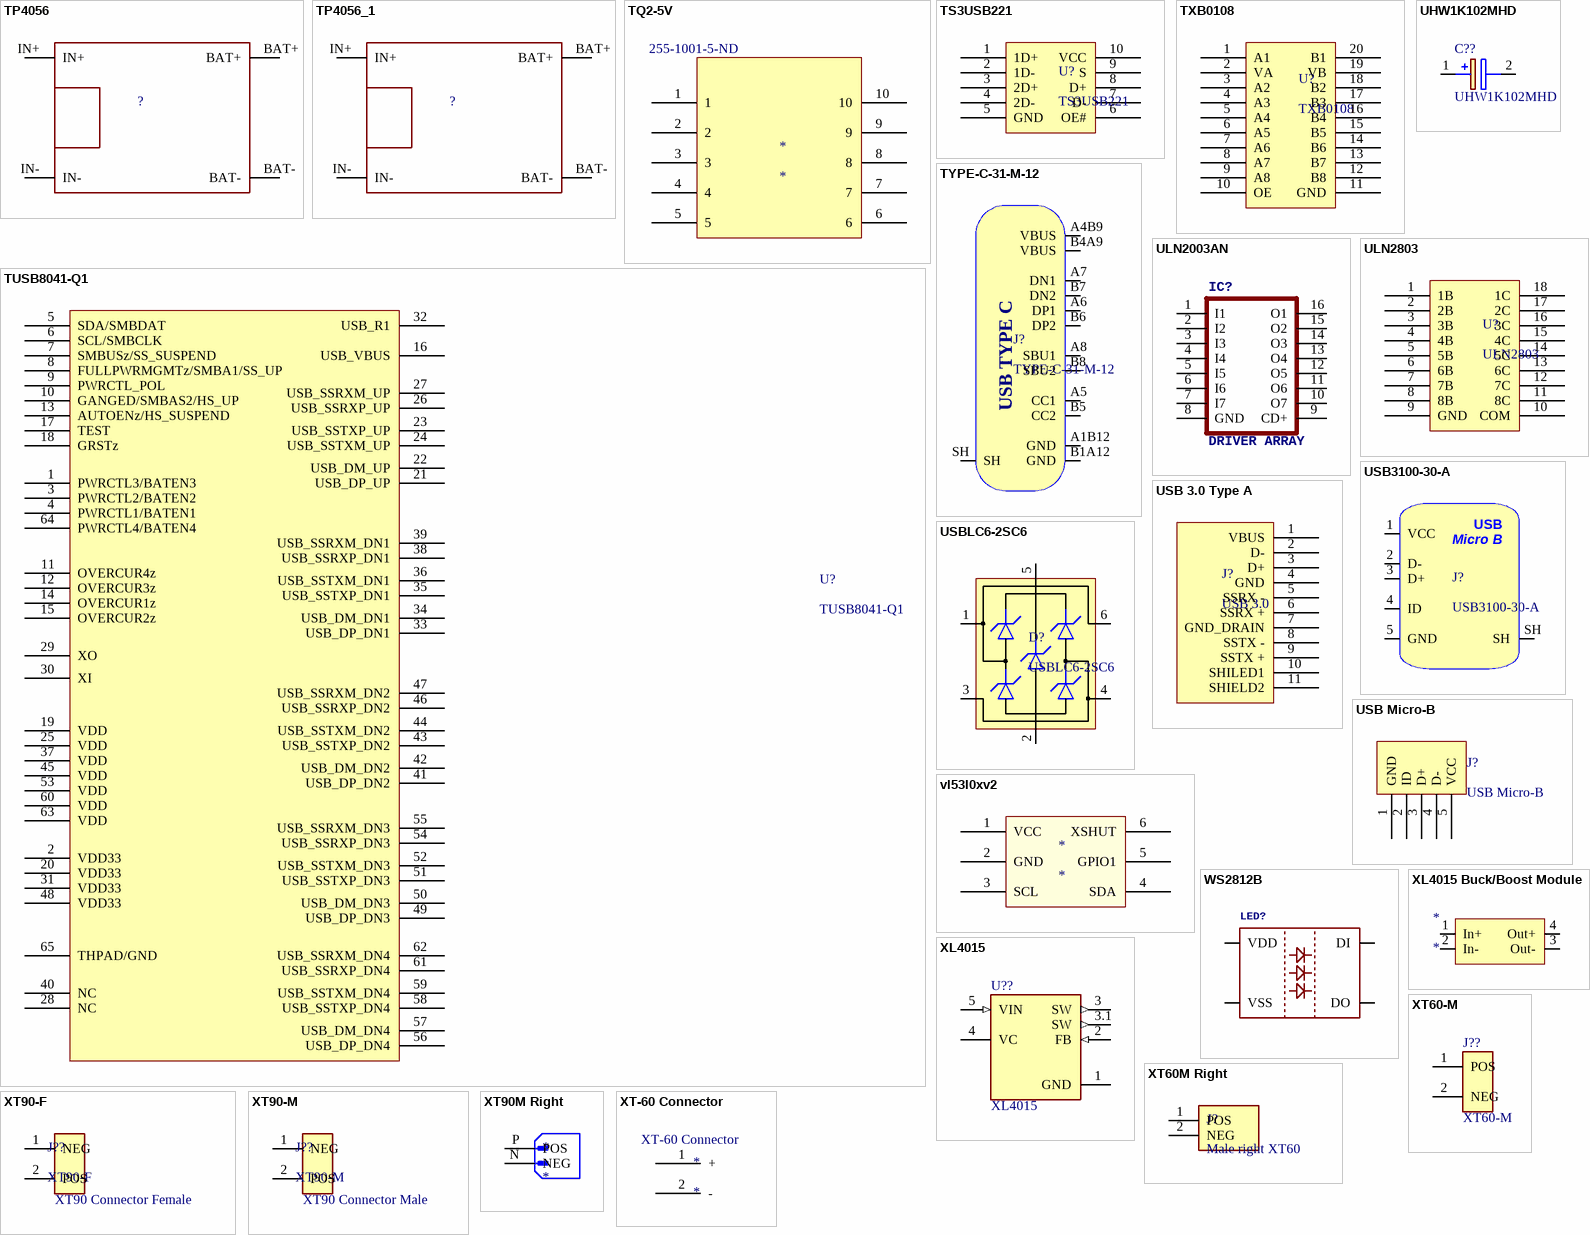
[diagram p6: symbols TP4056 to XT-60 Connector]

## TP4056
designator ?
footprint TP4056 Lipo Charger
pins: BAT+, BAT-, IN+, IN-

## TP4056_1
designator ?
footprint TP4056 Lipo Charger
pins: BAT+, BAT-, IN+, IN-

## TQ2-5V
designator *  Supplier Part Number 1: 255-1001-5-ND
Supplier 1: Digi-Key
pins: 1, 2, 3, 4, 5, 6, 7, 8, 9, 10

## TS3USB221
designator U?
USB Multiplex
footprint TS3USB221 (USB multiplex)
pins: 1 1D+, 2 1D-, 3 2D+, 4 2D-, 5 GND, 6 OE#, 7 D-, 8 D+, 9 S, 10 VCC

## TUSB8041-Q1
designator U?
Four-Port USB 3.0 Hub
footprint PM064_N (64-Pin Thin Quad Flat Pack 0.5 mm Pitch, IPC Medium Density)
pins: 1 PWRCTL3/BATEN3, 2 VDD33, 3 PWRCTL2/BATEN2, 4 PWRCTL1/BATEN1, 5 SDA/SMBDAT, 6 SCL/SMBCLK, 7 SMBUSz/SS_SUSPEND, 8 FULLPWRMGMTz/SMBA1/SS_UP, 9 PWRCTL_POL, 10 GANGED/SMBAS2/HS_UP, 11 OVERCUR4z, 12 OVERCUR3z, 13 AUTOENz/HS_SUSPEND, 14 OVERCUR1z, 15 OVERCUR2z, 16 USB_VBUS, 17 TEST , 18 GRSTz, 19 VDD, 20 VDD33, 21 USB_DP_UP, 22 USB_DM_UP, 23 USB_SSTXP_UP, 24 USB_SSTXM_UP, 25 VDD, 26 USB_SSRXP_UP, 27 USB_SSRXM_UP, 28 NC, 29 XO, 30 XI, 31 VDD33, 32 USB_R1, 33 USB_DP_DN1, 34 USB_DM_DN1, 35 USB_SSTXP_DN1, 36 USB_SSTXM_DN1, 37 VDD, 38 USB_SSRXP_DN1, 39 USB_SSRXM_DN1, 40 NC, 41 USB_DP_DN2, 42 USB_DM_DN2, 43 USB_SSTXP_DN2, 44 USB_SSTXM_DN2, 45 VDD, 46 USB_SSRXP_DN2, 47 USB_SSRXM_DN2, 48 VDD33, 49 USB_DP_DN3, 50 USB_DM_DN3, 51 USB_SSTXP_DN3, 52 USB_SSTXM_DN3, 53 VDD, 54 USB_SSRXP_DN3, 55 USB_SSRXM_DN3, 56 USB_DP_DN4, 57 USB_DM_DN4, 58 USB_SSTXP_DN4, 59 USB_SSTXM_DN4, 60 VDD, 61 USB_SSRXP_DN4, 62 USB_SSRXM_DN4, 63 VDD, 64 PWRCTL4/BATEN4, 65 THPAD/GND

## TXB0108
designator U?
8-Bit Bidirectional Voltage-Level Translator
footprint SOP20
pins: 1 A1, 2 VA, 3 A2, 4 A3, 5 A4, 6 A5, 7 A6, 8 A7, 9 A8, 10 OE, 11 GND, 12 B8, 13 B7, 14 B6, 15 B5, 16 B4, 17 B3, 18 B2, 19 VB, 20 B1

## TYPE-C-31-M-12
designator J?
USB Type C Connector Horizontal SMT; Manufacturer: Koren Hroparts; Manufacturer Part Number: TYPE-C-31-M-12
footprint TYPE-C-31-M-12
pins: A1B12 GND (power), A4B9 VBUS (power), A5 CC1, A6 DP1 (io), A7 DN1 (io), A8 SBU1 (io), B1A12 GND (power), B4A9 VBUS (power), B5 CC2 (hiz), B6 DP2 (io), B7 DN2 (io), B8 SBU2 (io), SH (power)
text: USB TYPE C

## UHW1K102MHD
designator C??
Capacitor Polarised; Manufacturer_Name: Nichicon; Datasheet Link: https://componentsearchengine.com/Datasheets/1/UHW1K102MHD.pdf; Height: 37.5mm; Manufacturer_Part_Number: UHW1K102MHD; Mouser Part Number: 647-UHW1K102MHD; Mouser Price/Stock: https://www.mouser.com/Search/Refine.aspx?Keyword=647-UHW1K102MHD
footprint CAPPRD750W80D1625H3750
pins: 1 +, 2 -

## ULN2003AN
designator IC?, comment DRIVER ARRAY
footprint DIL16
pins: 1 I1, 2 I2, 3 I3, 4 I4, 5 I5, 6 I6, 7 I7, 8 GND (power), 9 CD+, 10 O7 (oc), 11 O6 (oc), 12 O5 (oc), 13 O4 (oc), 14 O3 (oc), 15 O2 (oc), 16 O1 (oc)

## ULN2803
designator U?
Darlington Transistor Arrays
footprint SOIC 18 (16-Pin Small Outline Integrated Circuit 1.27 mm Pitch, IPC Low Density)
pins: 1 1B, 2 2B, 3 3B, 4 4B, 5 5B, 6 6B, 7 7B, 8 8B, 9 GND, 10 COM, 11 8C, 12 7C, 13 6C, 14 5C, 15 4C, 16 3C, 17 2C, 18 1C

## USB3100-30-A
designator J?
USB Connector Type Micro B 2.0 SMD Reverse Mount; Manufacturer: GCT; Manufacturer Part Number: USB3100-30-A
footprint USB3100-30-A
pins: 1 VCC, 2 D-, 3 D+, 4 ID, 5 GND, SH
text: USB; Micro B

## USB 3.0 Type A
designator J?, comment USB 3.0
USB 3.0 Type A Feamle
footprint USB 3.0 (Type A female)
pins: 1 VBUS, 2 D-, 3 D+, 4 GND, 5 SSRX -, 6 SSRX +, 7 GND_DRAIN, 8 SSTX -, 9 SSTX +, 10 SHILED1, 11 SHIELD2

## USB Micro-B
designator J?
footprint USB Micro - B
pins: 1 GND, 2 ID, 3 D+, 4 D-, 5 VCC

## USBLC6-2SC6
designator D?
Low-Capacitance ESD Protection USB; Manufacturer: STMicroelectronics; Manufacturer Part Number: USBLC6-2SC6; Distributor Link: https://www.mouser.de/ProductDetail/STMicroelectronics/USBLC6-2SC6?qs=po45yt2pPpu%2FhNIlwQdTlg%3D%3D
footprint SOT-23-6
pins: 1 IO1 (io), 2 GND (power), 3 IO2 (io), 4 IO2 (io), 5 VBUS (power), 6 IO1 (io)

## vl53l0xv2
designator *
footprint VL53L0X V2 (ToF sensor)
footprint VL53L0X V2 90 (ToF sensor)
pins: 1 VCC (power), 2 GND (power), 3 SCL (power), 4 SDA (power), 5 GPIO1 (power), 6 XSHUT (power)

## WS2812B
designator LED?
GateName_1: G$1; SymbolName_1: WS2812B; LibraryName: WS2812; DeviceSetName: WS2812B; Package: WS2812B
footprint WS2812B
pins: 1 VDD, 2 DO, 3 VSS, 4 DI

## XL4015
designator U??
5A 180KHz 36V Buck DC to DC Converter; MF: XLSEMI; Value: *; Availability: Unavailable; Price: None; SnapEDA_Link: https://www.snapeda.com/parts/XL4015/XLSEMI/view-part/4725363/?ref=snap; Package: Package; MP: XL4015
footprint CONV_XL4015
pins: 1 GND (power), 2 FB (in), 3 SW (out), 3.1 SW (out), 4 VC, 5 VIN (in)

## XL4015 Buck/Boost Module
designator *
footprint XL4015 Module
pins: 1 In+ (power), 2 In- (power), 3 Out- (power), 4 Out+ (power)

## XT60-M
designator J??
Plug; DC supply; XT60; male; PIN: 2; for cable; soldered; 30A; 500V; MF: AMASS; MP: XT60-M; Price: None; Package: Package Analog Devices; Value: *; Availability: Unavailable; SnapEDA_Link: https://www.snapeda.com/parts/XT60-M/AMASS/view-part/2883912/?ref=snap
footprint XT-60M
pins: 1 POS, 2 NEG

## XT60M Right
designator J?, comment Male right XT60
footprint XT60M Right
pins: 1 POS (oe), 2 NEG

## XT90-F
designator J??
footprint XT90-F
pins: 1 NEG, 2 POS
text: XT90 Connector Female

## XT90-M
designator J??
footprint XT90-M
pins: 1 NEG, 2 POS
text: XT90 Connector Male

## XT90M Right
designator *
footprint XT90M Right
pins: N NEG, P POS

## XT-60 Connector
designator *  Supplier Part Number 1: XT-60 Connector
Manufacturer: POLOLU; Manufacturer Part Number: XT60 YELLOW; Unit: pcs; SuppliedAmount: 0; MinAmount: 1; Type of robotics accessories: power connector; Maximum current: 65A; Information: Product is not a working device, but only component; Supplier 1: TME; Category: Power Supply Modules; Stock 1: 29; Pricing 1: 1=2.08, 10=1.95 (USD); Weight: 7.267; Multiples: 1; Number of pins: 2; Colour: yellow; Price Type: NET; ComponentLink1URL: http://static.tme.eu/products_pics/8/b/5/8b5040a8a5baf3e0e67386c2e3a9b903/913.jpg; ComponentLink1Description: http://static.tme.eu/products_pics/8/b/5/8b5040a8a5baf3e0e67386c2e3a9b903/913.jpg
footprint XT-60 (Battery Connector)
pins: 1 + (power), 2 - (power)